# Altium footprint library Microchip Interface.PcbLib: 96 footprints (part 1 of 6)
Each footprint in its own frame and in the unit in brackets; x right, y up, seen from the top. Pads: shape width x height; smd on the part's side, far side on the other; paste and mask are expansions set on the pad; w line width, h text height; cw(c..) or ccw(c..) is an arc to the next point about the centre after c.
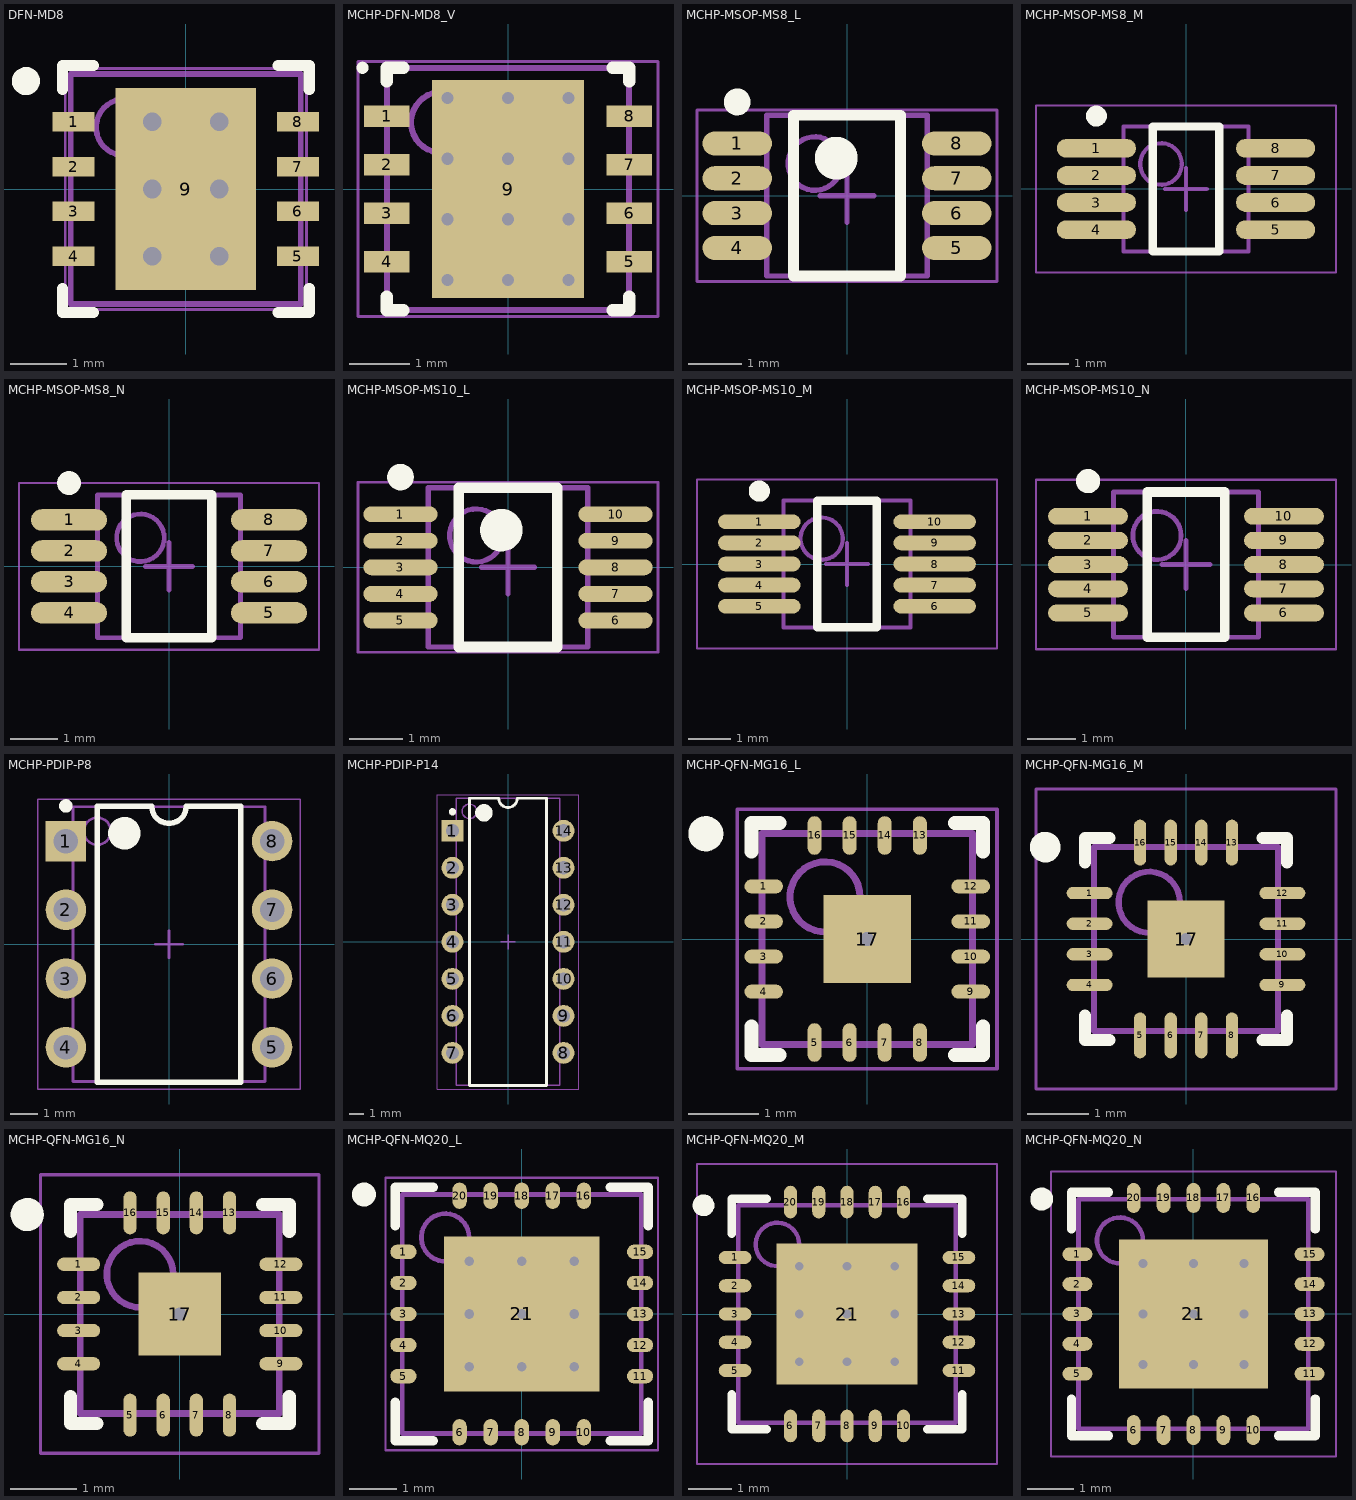
[diagram p0: the footprints below, top view; thin cyan lines are the x and y axes]

## DFN-MD8 [mm] "SON, 8-Leads, Body 4x4mm, Pitch 0.8mm, Microchip Recommended"
height 1
pads (9):
  rect 0.75x0.35 smd: 1(-2,1.2) 2(-2,0.4) 3(-2,-0.4) 4(-2,-1.2) 5(2,-1.2) 6(2,-0.4) 7(2,0.4) 8(2,1.2)
  rect 2.5x3.6 smd: 9(0,0)
via -0.6,1.2 diameter 0.66 hole 0.33
via 0.6,1.2 diameter 0.66 hole 0.33
via -0.6,0 diameter 0.66 hole 0.33
via 0.6,0 diameter 0.66 hole 0.33
via -0.6,-1.2 diameter 0.66 hole 0.33
via 0.6,-1.2 diameter 0.66 hole 0.33
Top Overlay:
  circle w0.25: c-2.85,1.925 r0.125
  lines w0.2: -2.2,-1.775 -2.2,-2.2 -1.65,-2.2 ; -2.2,1.775 -2.2,2.2 -1.65,2.2 ; 1.65,-2.2 2.2,-2.2 2.2,-1.775 ; 1.65,2.2 2.2,2.2 2.2,1.775
Mechanical 13:
  circle w0.1: c-1.1,1.1 r0.5
  lines w0.1: -2.05,-2.05 -2.05,2.05 2.05,2.05 2.05,-2.05 -2.05,-2.05
Mechanical 15:
  lines w0.05: -2.15,-2.15 -2.15,2.15 2.15,2.15 2.15,-2.15 -2.15,-2.15
  lines w0.1: -0.5,0 0.5,0 ; 0,-0.5 0,0.5
3D body: height 1, standoff 0, extent -2.05,-2.05 2.05,2.05

## MCHP-DFN-MD8_V [mm] "SON, 8-Leads, Body 4x4mm, Pitch 0.8mm, Thermal Pad 3.5x2.7mm"
height 1
pads (9):
  rect 0.75x0.35 smd: 1(-2,1.2) 2(-2,0.4) 3(-2,-0.4) 4(-2,-1.2) 5(2,-1.2) 6(2,-0.4) 7(2,0.4) 8(2,1.2)
  rect 2.5x3.6 smd: 9(0,0)
via -1,1.5 diameter 0.5 hole 0.2
via 0,1.5 diameter 0.5 hole 0.2
via 1,1.5 diameter 0.5 hole 0.2
via -1,0.5 diameter 0.5 hole 0.2
via 0,0.5 diameter 0.5 hole 0.2
via 1,0.5 diameter 0.5 hole 0.2
via -1,-0.5 diameter 0.5 hole 0.2
via 0,-0.5 diameter 0.5 hole 0.2
via 1,-0.5 diameter 0.5 hole 0.2
via -1,-1.5 diameter 0.5 hole 0.2
via 0,-1.5 diameter 0.5 hole 0.2
via 1,-1.5 diameter 0.5 hole 0.2
Top Overlay:
  circle w0.1: c-2.4,2 r0.05
  lines w0.2: -2,-1.775 -2,-2 -1.725,-2 ; -2,1.775 -2,2 -1.725,2 ; 1.725,-2 2,-2 2,-1.775 ; 1.725,2 2,2 2,1.775
Mechanical 13:
  circle w0.1: c-1.1,1.1 r0.5
  lines w0.1: -2,-2 -2,2 2,2 2,-2 -2,-2
Mechanical 15:
  lines w0.05: -2.475,-2.1 -2.475,2.1 2.475,2.1 2.475,-2.1 -2.475,-2.1
  lines w0.1: -0.5,0 0.5,0 ; 0,-0.5 0,0.5
3D body: height 1, standoff 0, extent -2,-2 2,2

## MCHP-MSOP-MS8_L [mm] "SOP, 8-Leads, Body 3x3mm, Pitch 0.65mm, IPC High Density"
height 1.1
pads (8):
  oval 1.3x0.45 smd: 1(-2.05,0.975) 2(-2.05,0.325) 3(-2.05,-0.325) 4(-2.05,-0.975) 5(2.05,-0.975) 6(2.05,-0.325) 7(2.05,0.325) 8(2.05,0.975)
Top Overlay:
  circle w0.4: c-0.2,0.7 r0.2
  circle w0.25: c-2.05,1.75 r0.125
  lines w0.2: -1,-1.5 1,-1.5 1,1.5 -1,1.5 -1,-1.5
Mechanical 13:
  circle w0.1: c-0.6,0.6 r0.5
  lines w0.1: -1.5,-1.5 1.5,-1.5 1.5,1.5 -1.5,1.5 -1.5,-1.5
Mechanical 15:
  lines w0.05: -2.8,-1.6 2.8,-1.6 2.8,1.6 -2.8,1.6 -2.8,-1.6
  lines w0.1: -0.5,0 0.5,0 ; 0,-0.5 0,0.5
3D body: height 1.1, standoff 0, extent -1.5,-1.5 1.5,1.5

## MCHP-MSOP-MS8_M [mm] "SOP, 8-Leads, Body 3x3mm, Pitch 0.65mm, IPC Low Density"
height 1.1
pads (8):
  oval 1.9x0.45 smd: 1(-2.15,0.975) 2(-2.15,0.325) 3(-2.15,-0.325) 4(-2.15,-0.975) 5(2.15,-0.975) 6(2.15,-0.325) 7(2.15,0.325) 8(2.15,0.975)
Top Overlay:
  circle w0.25: c-2.15,1.75 r0.125
  lines w0.2: -0.8,-1.5 0.8,-1.5 0.8,1.5 -0.8,1.5 -0.8,-1.5
Mechanical 13:
  circle w0.1: c-0.6,0.6 r0.5
  lines w0.1: -1.5,-1.5 1.5,-1.5 1.5,1.5 -1.5,1.5 -1.5,-1.5
Mechanical 15:
  lines w0.05: -3.6,-2 3.6,-2 3.6,2 -3.6,2 -3.6,-2
  lines w0.1: -0.5,0 0.5,0 ; 0,-0.5 0,0.5
3D body: height 1.1, standoff 0, extent -1.5,-1.5 1.5,1.5

## MCHP-MSOP-MS8_N [mm] "SOP, 8-Leads, Body 3x3mm, Pitch 0.65mm, IPC Medium Density"
height 1.1
pads (8):
  oval 1.6x0.45 smd: 1(-2.1,0.975) 2(-2.1,0.325) 3(-2.1,-0.325) 4(-2.1,-0.975) 5(2.1,-0.975) 6(2.1,-0.325) 7(2.1,0.325) 8(2.1,0.975)
Top Overlay:
  circle w0.25: c-2.1,1.75 r0.125
  lines w0.2: -0.9,-1.5 0.9,-1.5 0.9,1.5 -0.9,1.5 -0.9,-1.5
Mechanical 13:
  circle w0.1: c-0.6,0.6 r0.5
  lines w0.1: -1.5,-1.5 1.5,-1.5 1.5,1.5 -1.5,1.5 -1.5,-1.5
Mechanical 15:
  lines w0.05: -3.15,-1.75 3.15,-1.75 3.15,1.75 -3.15,1.75 -3.15,-1.75
  lines w0.1: -0.5,0 0.5,0 ; 0,-0.5 0,0.5
3D body: height 1.1, standoff 0, extent -1.5,-1.5 1.5,1.5

## MCHP-MSOP-MS10_L [mm] "SOP, 10-Leads, Body 3x3mm, Pitch 0.5mm, IPC High Density"
height 1.1
pads (10):
  oval 1.4x0.3 smd: 1(-2.025,1) 2(-2.025,0.5) 3(-2.025,0) 4(-2.025,-0.5) 5(-2.025,-1) 6(2.025,-1) 7(2.025,-0.5) 8(2.025,0) 9(2.025,0.5) 10(2.025,1)
Top Overlay:
  circle w0.25: c-2.025,1.7 r0.125
  circle w0.4: c-0.125,0.7 r0.2
  lines w0.2: -0.925,-1.5 -0.925,1.5 0.925,1.5 0.925,-1.5 -0.925,-1.5
Mechanical 13:
  circle w0.1: c-0.6,0.6 r0.5
  lines w0.1: -1.5,-1.5 -1.5,1.5 1.5,1.5 1.5,-1.5 -1.5,-1.5
Mechanical 15:
  lines w0.05: -2.825,-1.6 -2.825,1.6 2.825,1.6 2.825,-1.6 -2.825,-1.6
  lines w0.1: -0.5,0 0.5,0 ; 0,-0.5 0,0.5
3D body: height 1.1, standoff 0, extent -1.5,-1.5 1.5,1.5

## MCHP-MSOP-MS10_M [mm] "SOP, 10-Leads, Body 3x3mm, Pitch 0.5mm, IPC Low Density"
height 1.1
pads (10):
  oval 1.95x0.35 smd: 1(-2.075,1) 2(-2.075,0.5) 3(-2.075,0) 4(-2.075,-0.5) 5(-2.075,-1) 6(2.075,-1) 7(2.075,-0.5) 8(2.075,0) 9(2.075,0.5) 10(2.075,1)
Top Overlay:
  circle w0.25: c-2.075,1.725 r0.125
  lines w0.2: -0.7,-1.5 -0.7,1.5 0.7,1.5 0.7,-1.5 -0.7,-1.5
Mechanical 13:
  circle w0.1: c-0.6,0.6 r0.5
  lines w0.1: -1.5,-1.5 -1.5,1.5 1.5,1.5 1.5,-1.5 -1.5,-1.5
Mechanical 15:
  lines w0.05: -3.55,-2 -3.55,2 3.55,2 3.55,-2 -3.55,-2
  lines w0.1: -0.5,0 0.5,0 ; 0,-0.5 0,0.5
3D body: height 1.1, standoff 0, extent -1.5,-1.5 1.5,1.5

## MCHP-MSOP-MS10_N [mm] "SOP, 10-Leads, Body 3x3mm, Pitch 0.5mm, IPC Medium Density"
height 1.1
pads (10):
  oval 1.65x0.35 smd: 1(-2.025,1) 2(-2.025,0.5) 3(-2.025,0) 4(-2.025,-0.5) 5(-2.025,-1) 6(2.025,-1) 7(2.025,-0.5) 8(2.025,0) 9(2.025,0.5) 10(2.025,1)
Top Overlay:
  circle w0.25: c-2.025,1.725 r0.125
  lines w0.2: -0.8,-1.5 -0.8,1.5 0.8,1.5 0.8,-1.5 -0.8,-1.5
Mechanical 13:
  circle w0.1: c-0.6,0.6 r0.5
  lines w0.1: -1.5,-1.5 -1.5,1.5 1.5,1.5 1.5,-1.5 -1.5,-1.5
Mechanical 15:
  lines w0.05: -3.1,-1.75 -3.1,1.75 3.1,1.75 3.1,-1.75 -3.1,-1.75
  lines w0.1: -0.5,0 0.5,0 ; 0,-0.5 0,0.5
3D body: height 1.1, standoff 0, extent -1.5,-1.5 1.5,1.5

## MCHP-PDIP-P8 [mm] "PDIP, 8-Leads, Body 9.5x6.604mm, Pitch 2.54mm"
height 5.34
pads (8):
  rect 1.5x1.5 hole 0.9: 1(-3.81,3.81)
  round 1.5 hole 0.9: 2(-3.81,1.27) 3(-3.81,-1.27) 4(-3.81,-3.81) 5(3.81,-3.81) 6(3.81,-1.27) 7(3.81,1.27) 8(3.81,3.81)
Top Overlay:
  circle w0.25: c-3.81,5.11 r0.125
  circle w0.6: c-1.65,4.1 r0.3
  lines w0.2: -2.65,-5.1 -2.65,5.1 -0.635,5.1 ccw(c0,5.1) 0.635,5.1 2.65,5.1 2.65,-5.1 -2.65,-5.1
Mechanical 13:
  circle w0.1: c-2.65,4.175 r0.5
  lines w0.1: -3.55,-5.075 -3.55,5.075 3.55,5.075 3.55,-5.075 -3.55,-5.075
Mechanical 15:
  lines w0.05: -4.85,-5.35 -4.85,5.35 4.85,5.35 4.85,-5.35 -4.85,-5.35
  lines w0.1: -0.5,0 0.5,0 ; 0,-0.5 0,0.5
3D body: height 2.73, standoff 0, extent -3.945,3.31 -3.675,4.31
3D body: height 3, standoff 2.72, extent -3.945,3.31 -3.55,4.31
3D body: height 0, standoff -1.6, extent -3.945,3.45 -3.675,4.17
3D body: height 2.73, standoff 0, extent -3.945,0.77 -3.675,1.77
3D body: height 3, standoff 2.72, extent -3.945,0.77 -3.55,1.77
3D body: height 0, standoff -1.6, extent -3.945,0.91 -3.675,1.63
3D body: height 2.73, standoff 0, extent -3.945,-1.77 -3.675,-0.77
3D body: height 3, standoff 2.72, extent -3.945,-1.77 -3.55,-0.77
3D body: height 0, standoff -1.6, extent -3.945,-1.63 -3.675,-0.91
3D body: height 2.73, standoff 0, extent -3.945,-4.31 -3.675,-3.31
3D body: height 3, standoff 2.72, extent -3.945,-4.31 -3.55,-3.31
3D body: height 0, standoff -1.6, extent -3.945,-4.17 -3.675,-3.45
3D body: height 2.73, standoff 0, extent 3.675,-4.31 3.945,-3.31
3D body: height 3, standoff 2.72, extent 3.55,-4.31 3.945,-3.31
3D body: height 0, standoff -1.6, extent 3.675,-4.17 3.945,-3.45
3D body: height 2.73, standoff 0, extent 3.675,-1.77 3.945,-0.77
3D body: height 3, standoff 2.72, extent 3.55,-1.77 3.945,-0.77
3D body: height 0, standoff -1.6, extent 3.675,-1.63 3.945,-0.91
3D body: height 2.73, standoff 0, extent 3.675,0.77 3.945,1.77
3D body: height 3, standoff 2.72, extent 3.55,0.77 3.945,1.77
3D body: height 0, standoff -1.6, extent 3.675,0.91 3.945,1.63
3D body: height 2.73, standoff 0, extent 3.675,3.31 3.945,4.31
3D body: height 3, standoff 2.72, extent 3.55,3.31 3.945,4.31
3D body: height 0, standoff -1.6, extent 3.675,3.45 3.945,4.17
3D body: height 5.34, standoff 0.38, extent -3.55,-5.075 3.55,5.075

## MCHP-PDIP-P14 [mm] "DIP, 14-Leads, Body 19.177x6.604mm, Pitch 2.54mm"
height 5.34
pads (14):
  rect 1.5x1.5 hole 0.9: 1(-3.81,7.62)
  round 1.5 hole 0.9: 2(-3.81,5.08) 3(-3.81,2.54) 4(-3.81,0) 5(-3.81,-2.54) 6(-3.81,-5.08) 7(-3.81,-7.62) 8(3.81,-7.62) 9(3.81,-5.08) 10(3.81,-2.54) 11(3.81,0) 12(3.81,2.54) 13(3.81,5.08) 14(3.81,7.62)
Top Overlay:
  circle w0.25: c-3.81,8.92 r0.125
  circle w0.6: c-1.65,8.85 r0.3
  lines w0.2: -2.65,-9.85 -2.65,9.85 -0.635,9.85 ccw(c0,9.85) 0.635,9.85 2.65,9.85 2.65,-9.85 -2.65,-9.85
Mechanical 13:
  circle w0.1: c-2.65,8.95 r0.5
  lines w0.1: -3.55,-9.85 -3.55,9.85 3.55,9.85 3.55,-9.85 -3.55,-9.85
Mechanical 15:
  lines w0.05: -4.85,-10.1 -4.85,10.1 4.85,10.1 4.85,-10.1 -4.85,-10.1
  lines w0.1: -0.5,0 0.5,0 ; 0,-0.5 0,0.5
3D body: height 2.73, standoff 0, extent -3.945,7.12 -3.675,8.12
3D body: height 3, standoff 2.72, extent -3.945,7.12 -3.55,8.12
3D body: height 0, standoff -1.6, extent -3.945,7.26 -3.675,7.98
3D body: height 2.73, standoff 0, extent -3.945,4.58 -3.675,5.58
3D body: height 3, standoff 2.72, extent -3.945,4.58 -3.55,5.58
3D body: height 0, standoff -1.6, extent -3.945,4.72 -3.675,5.44
3D body: height 2.73, standoff 0, extent -3.945,2.04 -3.675,3.04
3D body: height 3, standoff 2.72, extent -3.945,2.04 -3.55,3.04
3D body: height 0, standoff -1.6, extent -3.945,2.18 -3.675,2.9
3D body: height 2.73, standoff 0, extent -3.945,-0.5 -3.675,0.5
3D body: height 3, standoff 2.72, extent -3.945,-0.5 -3.55,0.5
3D body: height 0, standoff -1.6, extent -3.945,-0.36 -3.675,0.36
3D body: height 2.73, standoff 0, extent -3.945,-3.04 -3.675,-2.04
3D body: height 3, standoff 2.72, extent -3.945,-3.04 -3.55,-2.04
3D body: height 0, standoff -1.6, extent -3.945,-2.9 -3.675,-2.18
3D body: height 2.73, standoff 0, extent -3.945,-5.58 -3.675,-4.58
3D body: height 3, standoff 2.72, extent -3.945,-5.58 -3.55,-4.58
3D body: height 0, standoff -1.6, extent -3.945,-5.44 -3.675,-4.72
3D body: height 2.73, standoff 0, extent -3.945,-8.12 -3.675,-7.12
3D body: height 3, standoff 2.72, extent -3.945,-8.12 -3.55,-7.12
3D body: height 0, standoff -1.6, extent -3.945,-7.98 -3.675,-7.26
3D body: height 2.73, standoff 0, extent 3.675,-8.12 3.945,-7.12
3D body: height 3, standoff 2.72, extent 3.55,-8.12 3.945,-7.12
3D body: height 0, standoff -1.6, extent 3.675,-7.98 3.945,-7.26
3D body: height 2.73, standoff 0, extent 3.675,-5.58 3.945,-4.58
3D body: height 3, standoff 2.72, extent 3.55,-5.58 3.945,-4.58
3D body: height 0, standoff -1.6, extent 3.675,-5.44 3.945,-4.72
3D body: height 2.73, standoff 0, extent 3.675,-3.04 3.945,-2.04
3D body: height 3, standoff 2.72, extent 3.55,-3.04 3.945,-2.04
3D body: height 0, standoff -1.6, extent 3.675,-2.9 3.945,-2.18
3D body: height 2.73, standoff 0, extent 3.675,-0.5 3.945,0.5
3D body: height 3, standoff 2.72, extent 3.55,-0.5 3.945,0.5
3D body: height 0, standoff -1.6, extent 3.675,-0.36 3.945,0.36
3D body: height 2.73, standoff 0, extent 3.675,2.04 3.945,3.04
3D body: height 3, standoff 2.72, extent 3.55,2.04 3.945,3.04
3D body: height 0, standoff -1.6, extent 3.675,2.18 3.945,2.9
3D body: height 2.73, standoff 0, extent 3.675,4.58 3.945,5.58
3D body: height 3, standoff 2.72, extent 3.55,4.58 3.945,5.58
3D body: height 0, standoff -1.6, extent 3.675,4.72 3.945,5.44
3D body: height 2.73, standoff 0, extent 3.675,7.12 3.945,8.12
3D body: height 3, standoff 2.72, extent 3.55,7.12 3.945,8.12
3D body: height 0, standoff -1.6, extent 3.675,7.26 3.945,7.98
3D body: height 5.34, standoff 0.38, extent -3.55,-9.85 3.55,9.85

## MCHP-QFN-MG16_L [mm] "QFN, 16-Leads, Body 3x3mm, Pitch 0.5mm, Thermal Pad 1.25x1.25mm, IPC High Density"
height 0.9
pads (17):
  oval 0.55x0.2 smd: 1(-1.475,0.75) 2(-1.475,0.25) 3(-1.475,-0.25) 4(-1.475,-0.75) 9(1.475,-0.75) 10(1.475,-0.25) 11(1.475,0.25) 12(1.475,0.75)
  oval 0.2x0.55 smd: 5(-0.75,-1.475) 6(-0.25,-1.475) 7(0.25,-1.475) 8(0.75,-1.475) 13(0.75,1.475) 14(0.25,1.475) 15(-0.25,1.475) 16(-0.75,1.475)
  rect 1.25x1.25 smd: 17(0,0)
via 0,0 diameter 0.5 hole 0.2
Top Overlay:
  circle w0.25: c-2.3,1.5 r0.125
  lines w0.2: -1.65,-1.25 -1.65,-1.65 -1.25,-1.65 ; -1.65,1.25 -1.65,1.65 -1.25,1.65 ; 1.25,-1.65 1.65,-1.65 1.65,-1.25 ; 1.25,1.65 1.65,1.65 1.65,1.25
Mechanical 13:
  circle w0.1: c-0.6,0.6 r0.5
  lines w0.1: -1.5,-1.5 -1.5,1.5 1.5,1.5 1.5,-1.5 -1.5,-1.5
Mechanical 15:
  lines w0.05: -1.85,-1.85 -1.85,1.85 1.85,1.85 1.85,-1.85 -1.85,-1.85
  lines w0.1: -0.5,0 0.5,0 ; 0,-0.5 0,0.5
3D body: height 0.9, standoff 0, extent -1.5,-1.5 1.5,1.5

## MCHP-QFN-MG16_M [mm] "QFN, 16-Leads, Body 3x3mm, Pitch 0.5mm, Thermal Pad 1.25x1.25mm, IPC Low Density"
height 0.9
pads (17):
  oval 0.75x0.2 smd: 1(-1.575,0.75) 2(-1.575,0.25) 3(-1.575,-0.25) 4(-1.575,-0.75) 9(1.575,-0.75) 10(1.575,-0.25) 11(1.575,0.25) 12(1.575,0.75)
  oval 0.2x0.75 smd: 5(-0.75,-1.575) 6(-0.25,-1.575) 7(0.25,-1.575) 8(0.75,-1.575) 13(0.75,1.575) 14(0.25,1.575) 15(-0.25,1.575) 16(-0.75,1.575)
  rect 1.25x1.25 smd: 17(0,0)
via 0,0 diameter 0.5 hole 0.2
Top Overlay:
  circle w0.25: c-2.3,1.5 r0.125
  lines w0.2: -1.65,-1.25 -1.65,-1.65 -1.25,-1.65 ; -1.65,1.25 -1.65,1.65 -1.25,1.65 ; 1.25,-1.65 1.65,-1.65 1.65,-1.25 ; 1.25,1.65 1.65,1.65 1.65,1.25
Mechanical 13:
  circle w0.1: c-0.6,0.6 r0.5
  lines w0.1: -1.5,-1.5 -1.5,1.5 1.5,1.5 1.5,-1.5 -1.5,-1.5
Mechanical 15:
  lines w0.05: -2.45,-2.45 -2.45,2.45 2.45,2.45 2.45,-2.45 -2.45,-2.45
  lines w0.1: -0.5,0 0.5,0 ; 0,-0.5 0,0.5
3D body: height 0.9, standoff 0, extent -1.5,-1.5 1.5,1.5

## MCHP-QFN-MG16_N [mm] "QFN, 16-Leads, Body 3x3mm, Pitch 0.5mm, Thermal Pad 1.25x1.25mm, IPC Medium Density"
height 0.9
pads (17):
  oval 0.65x0.2 smd: 1(-1.525,0.75) 2(-1.525,0.25) 3(-1.525,-0.25) 4(-1.525,-0.75) 9(1.525,-0.75) 10(1.525,-0.25) 11(1.525,0.25) 12(1.525,0.75)
  oval 0.2x0.65 smd: 5(-0.75,-1.525) 6(-0.25,-1.525) 7(0.25,-1.525) 8(0.75,-1.525) 13(0.75,1.525) 14(0.25,1.525) 15(-0.25,1.525) 16(-0.75,1.525)
  rect 1.25x1.25 smd: 17(0,0)
via 0,0 diameter 0.5 hole 0.2
Top Overlay:
  circle w0.25: c-2.3,1.5 r0.125
  lines w0.2: -1.65,-1.25 -1.65,-1.65 -1.25,-1.65 ; -1.65,1.25 -1.65,1.65 -1.25,1.65 ; 1.25,-1.65 1.65,-1.65 1.65,-1.25 ; 1.25,1.65 1.65,1.65 1.65,1.25
Mechanical 13:
  circle w0.1: c-0.6,0.6 r0.5
  lines w0.1: -1.5,-1.5 -1.5,1.5 1.5,1.5 1.5,-1.5 -1.5,-1.5
Mechanical 15:
  lines w0.05: -2.1,-2.1 -2.1,2.1 2.1,2.1 2.1,-2.1 -2.1,-2.1
  lines w0.1: -0.5,0 0.5,0 ; 0,-0.5 0,0.5
3D body: height 0.9, standoff 0, extent -1.5,-1.5 1.5,1.5

## MCHP-QFN-MQ20_L [mm] "QFN, 20-Leads, Body 5x5mm, Pitch 0.65mm, Thermal Pad 3.25x3.25mm, IPC High Density"
height 1
pads (21):
  oval 0.55x0.3 smd: 1(-2.475,1.3) 2(-2.475,0.65) 3(-2.475,0) 4(-2.475,-0.65) 5(-2.475,-1.3) 11(2.475,-1.3) 12(2.475,-0.65) 13(2.475,0) 14(2.475,0.65) 15(2.475,1.3)
  oval 0.3x0.55 smd: 6(-1.3,-2.475) 7(-0.65,-2.475) 8(0,-2.475) 9(0.65,-2.475) 10(1.3,-2.475) 16(1.3,2.475) 17(0.65,2.475) 18(0,2.475) 19(-0.65,2.475) 20(-1.3,2.475)
  rect 3.25x3.25 smd: 21(0,0)
via 1.1,-1.1 diameter 0.5 hole 0.2
via 0,-1.1 diameter 0.5 hole 0.2
via -1.1,-1.1 diameter 0.5 hole 0.2
via 1.1,0 diameter 0.5 hole 0.2
via 0,0 diameter 0.5 hole 0.2
via -1.1,0 diameter 0.5 hole 0.2
via 1.1,1.1 diameter 0.5 hole 0.2
via 0,1.1 diameter 0.5 hole 0.2
via -1.1,1.1 diameter 0.5 hole 0.2
Top Overlay:
  circle w0.25: c-3.3,2.5 r0.125
  lines w0.2: -2.65,-1.85 -2.65,-2.65 -1.85,-2.65 ; -2.65,1.85 -2.65,2.65 -1.85,2.65 ; 1.85,-2.65 2.65,-2.65 2.65,-1.85 ; 1.85,2.65 2.65,2.65 2.65,1.85
Mechanical 13:
  circle w0.1: c-1.6,1.6 r0.5
  lines w0.1: -2.5,-2.5 2.5,-2.5 2.5,2.5 -2.5,2.5 -2.5,-2.5
Mechanical 15:
  lines w0.05: -2.85,-2.85 2.85,-2.85 2.85,2.85 -2.85,2.85 -2.85,-2.85
  lines w0.1: -0.5,0 0.5,0 ; 0,-0.5 0,0.5
3D body: height 1, standoff 0, extent -2.5,-2.5 2.5,2.5

## MCHP-QFN-MQ20_M [mm] "QFN, 20-Leads, Body 5x5mm, Pitch 0.65mm, Thermal Pad 3.25x3.25mm, IPC Low Density"
height 1
pads (21):
  oval 0.75x0.3 smd: 1(-2.575,1.3) 2(-2.575,0.65) 3(-2.575,0) 4(-2.575,-0.65) 5(-2.575,-1.3) 11(2.575,-1.3) 12(2.575,-0.65) 13(2.575,0) 14(2.575,0.65) 15(2.575,1.3)
  oval 0.3x0.75 smd: 6(-1.3,-2.575) 7(-0.65,-2.575) 8(0,-2.575) 9(0.65,-2.575) 10(1.3,-2.575) 16(1.3,2.575) 17(0.65,2.575) 18(0,2.575) 19(-0.65,2.575) 20(-1.3,2.575)
  rect 3.25x3.25 smd: 21(0,0)
via -1.1,1.1 diameter 0.5 hole 0.2
via 0,1.1 diameter 0.5 hole 0.2
via 1.1,1.1 diameter 0.5 hole 0.2
via -1.1,0 diameter 0.5 hole 0.2
via 0,0 diameter 0.5 hole 0.2
via 1.1,0 diameter 0.5 hole 0.2
via -1.1,-1.1 diameter 0.5 hole 0.2
via 0,-1.1 diameter 0.5 hole 0.2
via 1.1,-1.1 diameter 0.5 hole 0.2
Top Overlay:
  circle w0.25: c-3.3,2.5 r0.125
  lines w0.2: -2.65,-1.85 -2.65,-2.65 -1.85,-2.65 ; -2.65,1.85 -2.65,2.65 -1.85,2.65 ; 1.85,-2.65 2.65,-2.65 2.65,-1.85 ; 1.85,2.65 2.65,2.65 2.65,1.85
Mechanical 13:
  circle w0.1: c-1.6,1.6 r0.5
  lines w0.1: -2.5,-2.5 -2.5,2.5 2.5,2.5 2.5,-2.5 -2.5,-2.5
Mechanical 15:
  lines w0.05: -3.45,-3.45 -3.45,3.45 3.45,3.45 3.45,-3.45 -3.45,-3.45
  lines w0.1: -0.5,0 0.5,0 ; 0,-0.5 0,0.5
3D body: height 1, standoff 0, extent -2.5,-2.5 2.5,2.5

## MCHP-QFN-MQ20_N [mm] "QFN, 20-Leads, Body 5x5mm, Pitch 0.65mm, Thermal Pad 3.25x3.25mm, IPC Medium Density"
height 1
pads (21):
  oval 0.65x0.3 smd: 1(-2.525,1.3) 2(-2.525,0.65) 3(-2.525,0) 4(-2.525,-0.65) 5(-2.525,-1.3) 11(2.525,-1.3) 12(2.525,-0.65) 13(2.525,0) 14(2.525,0.65) 15(2.525,1.3)
  oval 0.3x0.65 smd: 6(-1.3,-2.525) 7(-0.65,-2.525) 8(0,-2.525) 9(0.65,-2.525) 10(1.3,-2.525) 16(1.3,2.525) 17(0.65,2.525) 18(0,2.525) 19(-0.65,2.525) 20(-1.3,2.525)
  rect 3.25x3.25 smd: 21(0,0)
via -1.1,1.1 diameter 0.5 hole 0.2
via 0,1.1 diameter 0.5 hole 0.2
via 1.1,1.1 diameter 0.5 hole 0.2
via -1.1,0 diameter 0.5 hole 0.2
via 0,0 diameter 0.5 hole 0.2
via 1.1,0 diameter 0.5 hole 0.2
via -1.1,-1.1 diameter 0.5 hole 0.2
via 0,-1.1 diameter 0.5 hole 0.2
via 1.1,-1.1 diameter 0.5 hole 0.2
Top Overlay:
  circle w0.25: c-3.3,2.5 r0.125
  lines w0.2: -2.65,-1.85 -2.65,-2.65 -1.85,-2.65 ; -2.65,1.85 -2.65,2.65 -1.85,2.65 ; 1.85,-2.65 2.65,-2.65 2.65,-1.85 ; 1.85,2.65 2.65,2.65 2.65,1.85
Mechanical 13:
  circle w0.1: c-1.6,1.6 r0.5
  lines w0.1: -2.5,-2.5 -2.5,2.5 2.5,2.5 2.5,-2.5 -2.5,-2.5
Mechanical 15:
  lines w0.05: -3.1,-3.1 -3.1,3.1 3.1,3.1 3.1,-3.1 -3.1,-3.1
  lines w0.1: -0.5,0 0.5,0 ; 0,-0.5 0,0.5
3D body: height 1, standoff 0, extent -2.5,-2.5 2.5,2.5